# Altium footprint library BSPO.PcbLib: 178 footprints (part 9 of 12)
Each footprint in its own frame and in the unit in brackets; x right, y up, seen from the top. Pads: shape width x height; smd on the part's side, far side on the other; paste and mask are expansions set on the pad; w line width, h text height; cw(c..) or ccw(c..) is an arc to the next point about the centre after c.
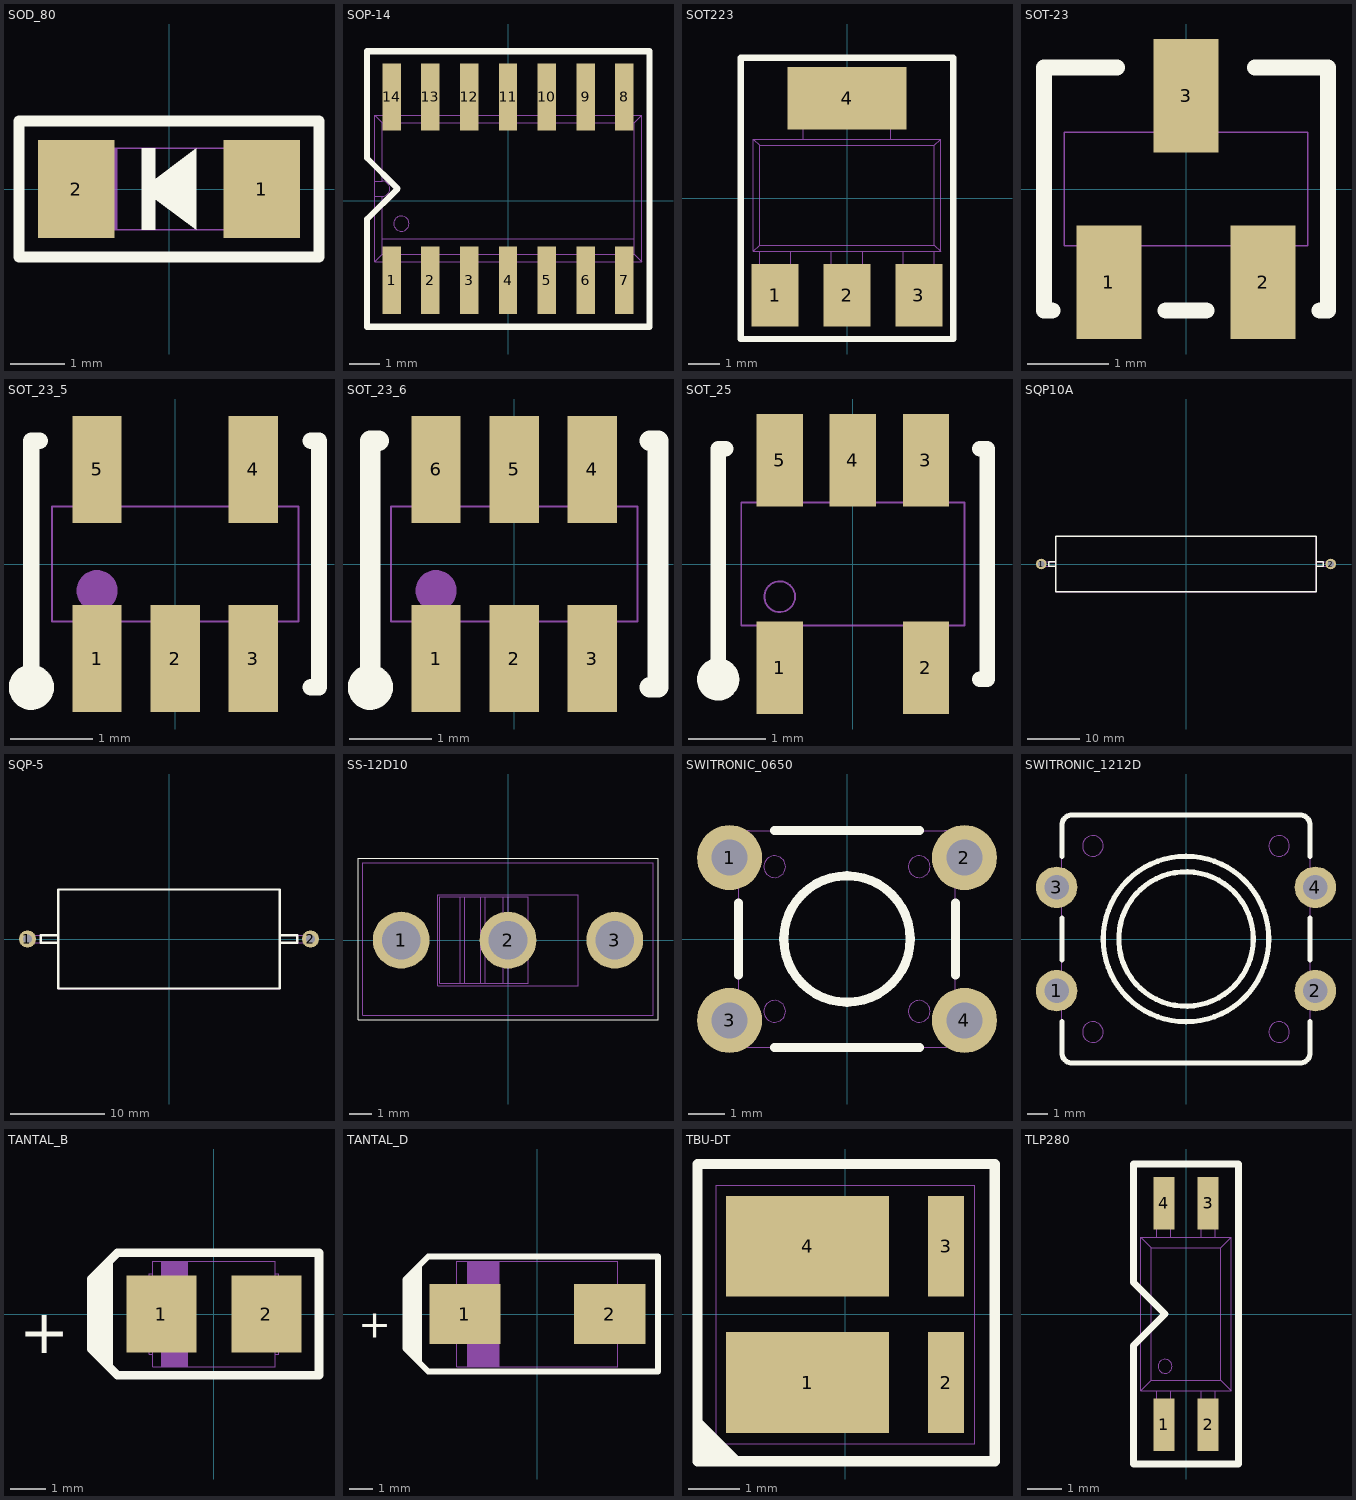
[diagram p8: the footprints below, top view; thin cyan lines are the x and y axes]

## SOD_80 [mm]
pads (2):
  rect 1.4x1.8 smd: 1(1.7,0) 2(-1.7,0)
Top Overlay:
  region: -0.5,0 0.5,-0.75 0.5,0.75
  region: -0.5,-0.75 -0.25,-0.75 -0.25,0.75 -0.5,0.75
  lines w0.2: -2.75,-1.25 2.75,-1.25 2.75,1.25 -2.75,1.25 -2.75,-1.25
Mechanical 1:
  region: -0.95,-0.75 -0.95,0.75 -1.25,0.75 -1.25,-0.75
  lines w0.025: -1.55,-0.65 ccw(c-1.45,-0.65) -1.45,-0.75 1.45,-0.75 ccw(c1.45,-0.65) 1.55,-0.65 ; -1.55,0.65 cw(c-1.45,0.65) -1.45,0.75 1.45,0.75 cw(c1.45,0.65) 1.55,0.65 ; -1.85,-0.8 -1.85,0.8 -1.55,0.8 -1.55,-0.8 -1.85,-0.8 ; 1.55,-0.8 1.55,0.8 1.85,0.8 1.85,-0.8 1.55,-0.8

## SOP-14 [mm]
pads (14):
  rect 0.6x2.2 smd: 1(-3.82,-2.6) 2(-2.55,-2.6) 3(-1.28,-2.6) 4(-0.01,-2.6) 5(1.26,-2.6) 6(2.53,-2.6) 7(3.8,-2.6) 8(3.8,3.4) 9(2.53,3.4) 10(1.26,3.4) 11(-0.01,3.4) 12(-1.28,3.4) 13(-2.55,3.4) 14(-3.82,3.4)
Top Overlay:
  lines w0.2: -4.625,-4.125 4.625,-4.125 4.625,4.895 -4.625,4.895 -4.625,1.4 -3.625,0.4 -4.625,-0.6 -4.625,-4.125
Mechanical 1:
  circle w0.025: c-3.5,-0.75 r0.25
  lines w0.025: -4.375,0.145 -4.125,0.145 ; -4.375,0.645 -4.125,0.645 ; -4.125,-1.25 4.125,-1.25 ; -4.065,-2.35 -3.575,-2.35 ; -4.065,-2 -4.065,-3.1 -3.575,-3.1 -3.575,-2 ; -4.065,2.805 -4.065,3.905 -3.575,3.905 -3.575,2.805 ; -4.065,3.155 -3.575,3.155 ; -2.795,-2.35 -2.305,-2.35 ; -2.795,-2 -2.795,-3.1 -2.305,-3.1 -2.305,-2 ; -2.795,2.805 -2.795,3.905 -2.305,3.905 -2.305,2.805 ; -2.795,3.155 -2.305,3.155 ; -1.525,-2.35 -1.035,-2.35 ; -1.525,-2 -1.525,-3.1 -1.035,-3.1 -1.035,-2 ; -1.525,2.805 -1.525,3.905 -1.035,3.905 -1.035,2.805 ; -1.525,3.155 -1.035,3.155 ; -0.255,-2.35 0.235,-2.35 ; -0.255,-2 -0.255,-3.1 0.235,-3.1 0.235,-2 ; -0.255,2.805 -0.255,3.905 0.235,3.905 0.235,2.805 ; -0.255,3.155 0.235,3.155 ; 1.015,-2.35 1.505,-2.35 ; 1.015,-2 1.015,-3.1 1.505,-3.1 1.505,-2 ; 1.015,2.805 1.015,3.905 1.505,3.905 1.505,2.805 ; 1.015,3.155 1.505,3.155 ; 2.285,-2.35 2.775,-2.35 ; 2.285,-2 2.285,-3.1 2.775,-3.1 2.775,-2 ; 2.285,2.805 2.285,3.905 2.775,3.905 2.775,2.805 ; 2.285,3.155 2.775,3.155 ; 3.555,-2.35 4.045,-2.35 ; 3.555,-2 3.555,-3.1 4.045,-3.1 4.045,-2 ; 3.555,2.805 3.555,3.905 4.045,3.905 4.045,2.805 ; 3.555,3.155 4.045,3.155 ; 4.375,2.8 4.375,-2 ; -4.375,-2 4.375,-2 ; -4.375,-2 -4.375,2.805 ; -4.375,-2 -4.125,-1.75 ; -4.375,2.805 4.375,2.805 4.125,2.555 ; -4.375,2.805 -4.125,2.555 ; -4.375,2.805 -4.125,2.555 ; -4.125,-1.75 4.125,-1.75 ; -4.125,-1.75 -4.125,0.145 ; -4.125,0.145 ccw(c-4.125,0.395) -4.125,0.645 ; -4.125,0.645 -4.125,2.555 ; -4.125,2.555 4.125,2.555 ; 4.125,-1.75 4.125,2.555 ; 4.125,-1.75 4.375,-2

## SOT223 [mm]
pads (4):
  rect 1.5x2 smd: 1(-2.3,-3.1) 2(0,-3.1) 3(2.3,-3.1)
  rect 3.8x2 smd: 4(0,3.2)
Top Overlay:
  lines w0.2: -3.4,-4.5 3.4,-4.5 3.4,4.5 -3.4,4.5 -3.4,-4.5
Mechanical 1:
  lines w0.025: -2.8,-3.3 -1.8,-3.3 ; -2.8,-1.7 -2.8,-3.7 -1.8,-3.7 -1.8,-1.7 ; -1.4,1.9 -1.4,3.7 1.4,3.7 1.4,1.9 ; -1.4,2.9 1.4,2.9 ; -0.5,-3.3 0.5,-3.3 ; -0.5,-1.7 -0.5,-3.7 0.5,-3.7 0.5,-1.7 ; 1.8,-3.3 2.8,-3.3 ; 1.8,-1.7 1.8,-3.7 2.8,-3.7 2.8,-1.7 ; -3,-1.7 3,-1.7 ; -3,-1.7 -3,1.9 ; -3,-1.7 -2.8,-1.5 ; -3,1.9 3,1.9 ; -3,1.9 -2.8,1.7 ; -2.8,-1.5 2.8,-1.5 ; -2.8,-1.5 -2.8,1.7 ; -2.8,1.7 2.8,1.7 ; 2.8,-1.5 2.8,1.7 ; 2.8,-1.5 3,-1.7 ; 2.8,1.7 3,1.9 ; 3,-1.7 3,1.9

## SOT-23 [mm]
pads (3):
  rect 0.8x1.4 smd: 1(-0.95,-1.15) 2(0.95,-1.15) 3(0,1.15)
Top Overlay:
  lines w0.2: -1.65,-1.5 -1.75,-1.5 -1.75,1.5 -0.85,1.5 ; -0.25,-1.5 0.25,-1.5 ; 0.85,1.5 1.75,1.5 1.75,-1.5 1.65,-1.5
Mechanical 1:
  lines w0.02: -1.15,-0.95 -0.75,-0.95 ; -1.15,-0.7 -1.15,-1.25 -0.75,-1.25 -0.75,-0.7 ; -0.2,0.7 -0.2,1.25 0.2,1.25 0.2,0.7 ; -0.2,0.95 0.2,0.95 ; 0.75,-0.95 1.15,-0.95 ; 0.75,-0.7 0.75,-1.25 1.15,-1.25 1.15,-0.7 ; -1.5,-0.7 1.5,-0.7 1.5,0.7 -1.5,0.7 -1.5,-0.7

## SOT_23_5 [mm]
pads (5):
  rect 0.6x1.3 smd: 1(-0.95,-1.15) 2(0,-1.15) 3(0.95,-1.15) 4(0.95,1.15) 5(-0.95,1.15)
Top Overlay:
  circle w0.25: c-1.75,-1.5 r0.15
  lines w0.2: -1.65,1.5 -1.75,1.5 ; 1.65,-1.5 1.75,-1.5 1.75,1.5 1.65,1.5 ; -1.75,1.5 -1.75,-1.5 -1.75,1.5
Mechanical 1:
  circle w0.25: c-0.95,-0.325 r0.125
  lines w0.025: -1.15,-0.95 -0.75,-0.95 ; -1.15,-0.7 -1.15,-1.25 -0.75,-1.25 -0.75,-0.7 ; -1.15,0.7 -1.15,1.25 -0.75,1.25 -0.75,0.7 ; -1.15,0.95 -0.75,0.95 ; -0.2,-0.95 0.2,-0.95 ; -0.2,-0.7 -0.2,-1.25 0.2,-1.25 0.2,-0.7 ; 0.75,-0.95 1.15,-0.95 ; 0.75,-0.7 0.75,-1.25 1.15,-1.25 1.15,-0.7 ; 0.75,0.7 0.75,1.25 1.15,1.25 1.15,0.7 ; 0.75,0.95 1.15,0.95 ; -1.5,-0.7 1.5,-0.7 1.5,0.7 -1.5,0.7 -1.5,-0.7

## SOT_23_6 [mm]
pads (6):
  rect 0.6x1.3 smd: 1(-0.95,-1.15) 2(0,-1.15) 3(0.95,-1.15) 4(0.95,1.15) 5(0,1.15) 6(-0.95,1.15)
Top Overlay:
  circle w0.25: c-1.75,-1.5 r0.15
  lines w0.25: -1.65,1.5 -1.75,1.5 ; 1.65,-1.5 1.75,-1.5 1.75,1.5 1.65,1.5 ; -1.75,1.5 -1.75,-1.5 -1.75,1.5
Mechanical 1:
  circle w0.25: c-0.95,-0.325 r0.125
  lines w0.025: -1.15,-0.95 -0.75,-0.95 ; -1.15,-0.7 -1.15,-1.25 -0.75,-1.25 -0.75,-0.7 ; -1.15,0.7 -1.15,1.25 -0.75,1.25 -0.75,0.7 ; -1.15,0.95 -0.75,0.95 ; -0.2,-0.95 0.2,-0.95 ; -0.2,-0.7 -0.2,-1.25 0.2,-1.25 0.2,-0.7 ; 0.75,-0.95 1.15,-0.95 ; 0.75,-0.7 0.75,-1.25 1.15,-1.25 1.15,-0.7 ; -0.2,1.25 0.2,1.25 ; -0.2,1.25 0.2,1.25 ; -0.2,1.25 -0.2,0.7 -0.2,1.25 ; 0.2,1.25 0.2,0.7 0.2,1.25 ; 0.75,1.25 0.75,0.7 0.75,1.25 ; 0.75,1.25 1.15,1.25 ; 0.75,1.25 1.15,1.25 ; 1.15,1.25 1.15,0.7 1.15,1.25 ; -1.5,-0.7 1.5,-0.7 1.5,0.7 -1.5,0.7 -1.5,-0.7 ; -0.2,0.95 0.2,0.95 -0.2,0.95 ; 0.75,0.95 1.15,0.95 0.75,0.95

## SOT_25 [mm]
pads (5):
  rect 0.6x1.2 smd: 1(-0.95,-1.35) 2(0.95,-1.35) 3(0.95,1.35) 4(0,1.35) 5(-0.95,1.35)
Top Overlay:
  circle w0.25: c-1.75,-1.5 r0.15
  lines w0.2: -1.75,-1.5 -1.75,1.5 -1.65,1.5 ; 1.65,-1.5 1.75,-1.5 ; 1.65,1.5 1.75,1.5 ; 1.75,-1.5 1.75,1.5 ; 1.75,-1.5 1.75,1.5
Mechanical 1:
  circle w0.025: c-0.95,-0.425 r0.2
  lines w0.025: -1.15,-1.05 -0.75,-1.05 ; -1.15,-0.8 -1.15,-1.4 -0.75,-1.4 -0.75,-0.8 ; -1.15,0.8 -1.15,1.4 -0.75,1.4 -0.75,0.8 ; -1.15,1.05 -0.75,1.05 ; -0.2,0.8 -0.2,1.4 0.2,1.4 0.2,0.8 ; -0.2,1.05 0.2,1.05 ; 0.75,-1.05 1.15,-1.05 ; 0.75,-0.8 0.75,-1.4 1.15,-1.4 1.15,-0.8 ; 0.75,0.8 0.75,1.4 1.15,1.4 1.15,0.8 ; 0.75,1.05 1.15,1.05 ; -1.45,-0.8 1.45,-0.8 1.45,0.8 -1.45,0.8 -1.45,-0.8

## SQP10A [mm]
pads (2):
  round 2 hole 1.2: 1(-27.5,0) 2(27.5,0)
Top Overlay:
  lines w0.25: -24.8,-0.4 -26.1,-0.4 -26.1,0.4 -24.8,0.4 ; 24.8,-0.4 26.1,-0.4 26.1,0.4 24.8,0.4 ; -24.75,-5.25 24.75,-5.25 24.75,5.25 -24.75,5.25 -24.75,-5.25
Mechanical 1:
  lines w0.025: -24.75,-0.4 -26.5,-0.4 -27.5,-0.4 cw(c-27.5,0) -27.5,0.4 -26.5,0.4 -24.75,0.4 ; 24.75,-0.4 26.5,-0.4 27.5,-0.4 ccw(c27.5,0) 27.5,0.4 26.5,0.4 24.75,0.4 ; -24.75,-5.25 24.75,-5.25 24.75,5.25 -24.75,5.25 -24.75,-5.25

## SQP-5 [mm]
pads (2):
  round 1.8 hole 1: 1(-15,0) 2(15,0)
Top Overlay:
  lines w0.25: -13.6,-0.4 -13.6,0.4 -11.75,0.4 -11.75,-0.4 -13.6,-0.4 ; -11.75,-5.25 11.75,-5.25 11.75,5.25 -11.75,5.25 -11.75,-5.25 ; 11.75,-0.4 11.75,0.4 13.6,0.4 13.6,-0.4 11.75,-0.4
Mechanical 1:
  lines w0.025: -15,-0.4 cw(c-15,0) -15,0.4 -11.75,0.4 -11.75,-0.4 -15,-0.4 ; -11.75,-5.25 11.75,-5.25 11.75,5.25 -11.75,5.25 -11.75,-5.25 ; 11.75,-0.4 11.75,0.4 15,0.4 cw(c15,0) 15,-0.4 11.75,-0.4

## SS-12D10 [mm]
pads (3):
  round 2.5 hole 1.7: 1(-4.7,0) 2(0,0) 3(4.7,0)
Top Overlay:
  lines w0.01: -6.6,-3.5 6.6,-3.5 6.6,3.6 -6.6,3.6 -6.6,-3.5
Mechanical 1:
  lines w0.01: -2.1,-1.9 -2.1,1.9 ; -1.9,-1.9 -1.9,1.9 ; -1.2,-1.9 -1.2,1.9 ; -1,-1.9 -1,1.9 ; -0.2,-1.9 -0.2,1.9 ; 0,-1.9 0,1.9 ; -3.1,-2 3.1,-2 3.1,2 -3.1,2 -3.1,-2 ; -3,-1.9 0.9,-1.9 0.9,1.9 -3,1.9 -3,-1.9
  lines w0.05: -6.4,-3.3 6.4,-3.3 6.4,3.4 -6.4,3.4 -6.4,-3.3

## SWITRONIC_0650 [mm]
pads (4):
  round 1.8 hole 1: 1(-3.25,2.25) 2(3.25,2.25) 3(-3.25,-2.25) 4(3.25,-2.25)
Top Overlay:
  circle w0.25: c0,0 r1.75
  lines w0.25: -3,-1 -3,1 ; -2,-3 2,-3 ; -2,3 2,3 ; 3,-1 3,1
Mechanical 1:
  circle w0.025: c0,0 r1.75
  circle w0.025: c2,2 r0.3
  circle w0.025: c2,-2 r0.3
  circle w0.025: c-2,2 r0.3
  circle w0.025: c-2,-2 r0.3
  lines w0.025: -3,-2.6 -3.3,-2.6 -3.4,-2.6 ; -3,-1.9 -3.3,-1.9 -3.4,-1.9 ; -3,1.9 -3.3,1.9 -3.4,1.9 ; -3,2.6 -3.3,2.6 -3.4,2.6 ; 3,-2.6 3.3,-2.6 3.4,-2.6 ; 3,-1.9 3.3,-1.9 3.4,-1.9 ; 3,1.9 3.3,1.9 3.4,1.9 ; 3,2.6 3.3,2.6 3.4,2.6 ; -3.4,-2.6 -3.4,-1.9 ; -3.4,-2.6 -3.85,-2.6 -3.85,-1.9 -3.4,-1.9 ; -3.4,1.9 -3.4,2.6 ; -3.4,1.9 -3.85,1.9 -3.85,2.6 -3.4,2.6 ; 3.4,-2.6 3.4,-1.9 ; 3.4,-2.6 3.85,-2.6 3.85,-1.9 3.4,-1.9 ; 3.4,1.9 3.4,2.6 ; 3.4,1.9 3.85,1.9 3.85,2.6 3.4,2.6 ; -3,-2.7 ccw(c-2.7,-2.7) -2.7,-3 2.7,-3 ccw(c2.7,-2.7) 3,-2.7 3,2.7 ccw(c2.7,2.7) 2.7,3 -2.7,3 ccw(c-2.7,2.7) -3,2.7 -3,-2.7

## SWITRONIC_1212D [mm]
pads (4):
  round 2 hole 1.2: 1(-6.25,-2.5) 2(6.25,-2.5) 3(-6.25,2.5) 4(6.25,2.5)
Top Overlay:
  circle w0.25: c0,0 r4
  circle w0.25: c0,0 r3.25
  lines w0.25: -6,-4 -6,-5.5 ccw(c-5.5,-5.5) -5.5,-6 5.5,-6 ccw(c5.5,-5.5) 6,-5.5 6,-4 ; -6,-1 -6,1 ; -6,4 -6,5.5 cw(c-5.5,5.5) -5.5,6 5.5,6 cw(c5.5,5.5) 6,5.5 6,4 ; 6,-1 6,1
Mechanical 1:
  circle w0.025: c0,0 r4
  circle w0.025: c0,0 r3.25
  circle w0.025: c4.5,4.5 r0.5
  circle w0.025: c4.5,-4.5 r0.5
  circle w0.025: c-4.5,4.5 r0.5
  circle w0.025: c-4.5,-4.5 r0.5
  lines w0.025: -6,-2.8 -6.3,-2.8 -6.4,-2.8 ; -6,-2.2 -6.3,-2.2 -6.4,-2.2 ; -6,2.2 -6.3,2.2 -6.4,2.2 ; -6,2.8 -6.3,2.8 -6.4,2.8 ; 6,-2.8 6.3,-2.8 6.4,-2.8 ; 6,-2.2 6.3,-2.2 6.4,-2.2 ; 6,2.2 6.3,2.2 6.4,2.2 ; 6,2.8 6.3,2.8 6.4,2.8 ; -6.4,-2.8 -7.05,-2.8 -7.05,-2.2 -6.4,-2.2 ; -6.4,-2.8 -6.4,-2.2 ; -6.4,2.2 -7.05,2.2 -7.05,2.8 -6.4,2.8 ; -6.4,2.2 -6.4,2.8 ; 6.4,-2.8 7.05,-2.8 7.05,-2.2 6.4,-2.2 ; 6.4,-2.8 6.4,-2.2 ; 6.4,2.2 7.05,2.2 7.05,2.8 6.4,2.8 ; 6.4,2.2 6.4,2.8 ; -6,-5.5 ccw(c-5.5,-5.5) -5.5,-6 5.5,-6 ccw(c5.5,-5.5) 6,-5.5 6,5.5 ccw(c5.5,5.5) 5.5,6 -5.5,6 ccw(c-5.5,5.5) -6,5.5 -6,-5.5

## TANTAL_B [mm]
pads (2):
  rect 2x2.2 smd: 1(-1.5,0) 2(1.5,0)
Top Overlay:
  lines w0.25: -3.25,-1.25 -3.25,1.25 ; -3,-1.5 -3,1.5 ; -3.5,-1 -3.5,1 -2.75,1.75 3,1.75 3,-1.75 -2.75,-1.75 -3.5,-1
  text "+" at -5.563,-1.125 h1.25
Mechanical 1:
  region: -1.5,-1.5 -0.75,-1.5 -0.75,1.5 -1.5,1.5
  lines w0.025: -1.75,-1.15 -1.85,-1.15 -1.85,1.15 -1.75,1.15 ; 1.75,-1.15 1.85,-1.15 1.85,1.15 1.75,1.15 ; -1.75,-1.5 1.75,-1.5 1.75,1.5 -1.75,1.5 -1.75,-1.5

## TANTAL_D [mm]
pads (2):
  rect 3.1x2.6 smd: 1(-3.15,0) 2(3.15,0)
Top Overlay:
  region: -5.79,-1.5 -5.04,-2.25 -5.04,2.25 -5.79,1.5
  lines w0.25: -5.75,-1.5 -5.75,1.5 -5.5,1.75 -5.25,2 -4.75,2.5 5.25,2.5 5.25,-2.5 -4.75,-2.5 -5.25,-2 -5.5,-1.75 -5.75,-1.5
  text "+" at -7.803,-1.038 h1.25
Mechanical 1:
  region: -3.05,-2.3 -1.65,-2.3 -1.65,2.3 -3.05,2.3
  lines w0.025: -3.5,-1.2 -3.8,-1.2 -3.8,1.2 -3.5,1.2 ; 3.5,-1.2 3.8,-1.2 3.8,1.2 3.5,1.2 ; -3.5,-2.3 3.5,-2.3 3.5,2.3 -3.5,2.3 -3.5,-2.3

## TBU-DT [mm]
pads (4):
  rect 3.15x1.95 smd: 1(-0.73,-1.32) 4(-0.73,1.32)
  rect 0.7x1.95 smd: 2(1.95,-1.32) 3(1.95,1.32)
Top Overlay:
  region: -2.11,-2.84 -2.86,-2.09 -2.86,-2.84
  lines w0.2: -2.86,-2.09 -2.11,-2.84 ; -2.86,-2.84 2.89,-2.84 2.89,2.91 -2.86,2.91 -2.86,-2.84
Mechanical 1:
  circle w0.02: c-1.86,-1.84 r0.25
  lines w0.02: -2.5,-2.5 2.5,-2.5 2.5,2.5 -2.5,2.5 -2.5,-2.5

## TLP280 [mm]
pads (4):
  rect 0.6x1.5 smd: 1(-0.635,-3.175) 2(0.635,-3.175) 3(0.635,3.175) 4(-0.635,3.175)
Top Overlay:
  lines w0.2: -1.5,-4.3 1.5,-4.3 1.5,4.3 -1.5,4.3 -1.5,0.9 -0.6,0 -1.5,-0.9 -1.5,-4.3
Mechanical 1:
  circle w0.02: c-0.6,-1.5 r0.2
  lines w0.02: -0.84,-2.2 -0.84,-3.5 ; -0.84,2.2 -0.84,3.5 -0.44,3.5 -0.44,2.2 ; -0.84,2.9 -0.44,2.9 ; -0.44,-2.2 -0.44,-3.5 ; 0.44,-2.9 0.84,-2.9 ; 0.44,-2.2 0.44,-3.5 0.84,-3.5 0.84,-2.2 ; 0.44,2.2 0.44,3.5 0.84,3.5 0.84,2.2 ; 0.44,2.9 0.84,2.9 ; -1.3,-2.2 1.3,-2.2 ; -1.3,-2.2 -1.3,2.2 ; -1.3,-2.2 -1,-1.9 ; -1.3,2.2 1.3,2.2 ; -1.3,2.2 -1,1.9 ; -1,-1.9 1,-1.9 ; -1,-1.9 -1,1.9 ; -1,1.9 1,1.9 ; -0.84,-3.5 -0.44,-2.9 -0.84,-2.9 -0.44,-3.5 ; -0.84,-3.5 -0.44,-3.5 ; 1,-1.9 1,1.9 ; 1,-1.9 1.3,-2.2 ; 1,1.9 1.3,2.2 ; 1.3,-2.2 1.3,2.2